# Altium footprint library BOURNS_SRR1280.PcbLib: 1 footprints
Each footprint in its own frame and in the unit in brackets; x right, y up, seen from the top. Pads: shape width x height; smd on the part's side, far side on the other; paste and mask are expansions set on the pad; w line width, h text height; cw(c..) or ccw(c..) is an arc to the next point about the centre after c.
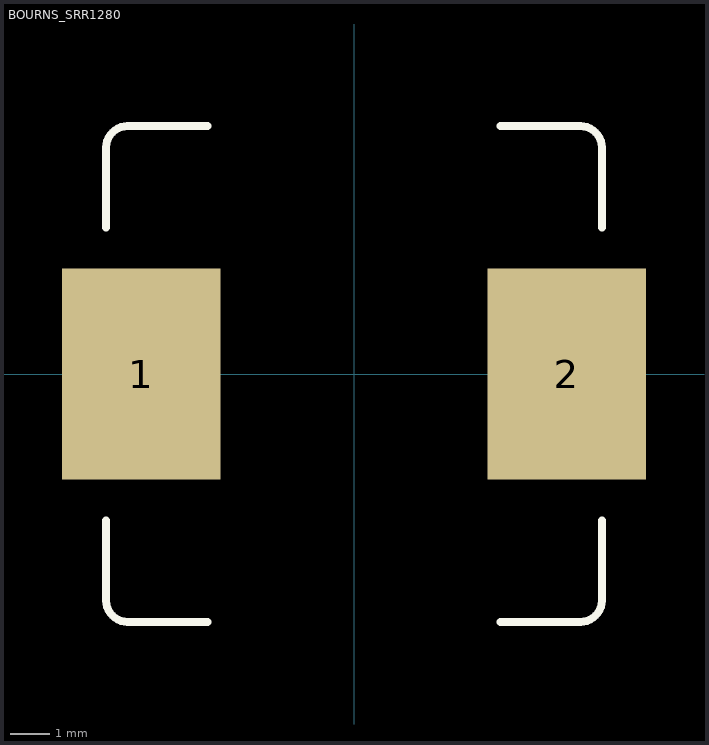
[diagram p0: the footprint, top view; thin cyan lines are the x and y axes]

## BOURNS_SRR1280 [mm] "Bourns SRR1280 series"
pads (2):
  rect 4.05x5.4 smd: 1(-5.45,0) 2(5.45,0)
Top Overlay:
  lines w0.2: -6.35,-3.75 -6.35,-5.8 ccw(c-5.8,-5.8) -5.8,-6.35 -3.75,-6.35 ; -6.35,3.75 -6.35,5.8 cw(c-5.8,5.8) -5.8,6.35 -3.75,6.35 ; 3.75,-6.35 5.8,-6.35 ccw(c5.8,-5.8) 6.35,-5.8 6.35,-3.75 ; 3.75,6.35 5.8,6.35 cw(c5.8,5.8) 6.35,5.8 6.35,3.75
3D body "srr1208.stp": height 8.25, standoff -0.25, extent -6.35,-6.35 6.35,6.35